# EAGLE library part DMP2240UDM-7 (library DMP2240UDM-7)
Diodes Inc DMP2240UDM-7 Dual P-channel MOSFET Transistor, 2 A, -20 V, 6-Pin SOT-26 Source: Datasheet <https://www.diodes.com/assets/Datasheets/ds31197.pdf>
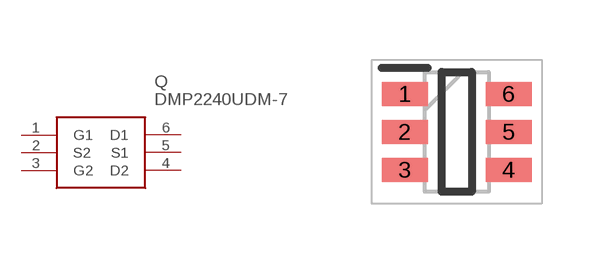
[diagram p0: symbol with the pads of SOT95P285X140-6N; footprint SOT95P285X140-6N]

Designator prefix Q

## DMP2240UDM-7 (Allied_Number: 70438124; Allied_Price-Stock: https://www.alliedelec.com/diodesinc-dmp2240udm-7/70438124/; Description: Diodes Inc DMP2240UDM-7 Dual P-channel MOSFET Transistor, 2 A, -20 V, 6-Pin SOT-26; Height: 1.4mm; Manufacturer_Name: Diodes Inc.; Manufacturer_Part_Number: DMP2240UDM-7; Mouser_Part_Number: 621-DMP2240UDM-7; Mouser_Price-Stock: https://www.mouser.co.uk/ProductDetail/Diodes-Incorporated/DMP2240UDM-7?qs=mno522deGfakW12JLK9H1A%3D%3D; RS_Part_Number: 7514253P; RS_Price-Stock: http://uk.rs-online.com/web/p/products/7514253P)  [SOT95P285X140-6N]
1  G1
2  S2
3  G2
4  D2
5  S1
6  D1

## Footprint SOT95P285X140-6N (pad centres in mm)
DMP2240UDM-7
smd 1.15 x 0.6: 1 -1.3,0.95; 2 -1.3,0; 3 -1.3,-0.95; 4 1.3,-0.95; 5 1.3,0; 6 1.3,0.95